# EAGLE library part PDQ30-D (library dc-dc-converter)
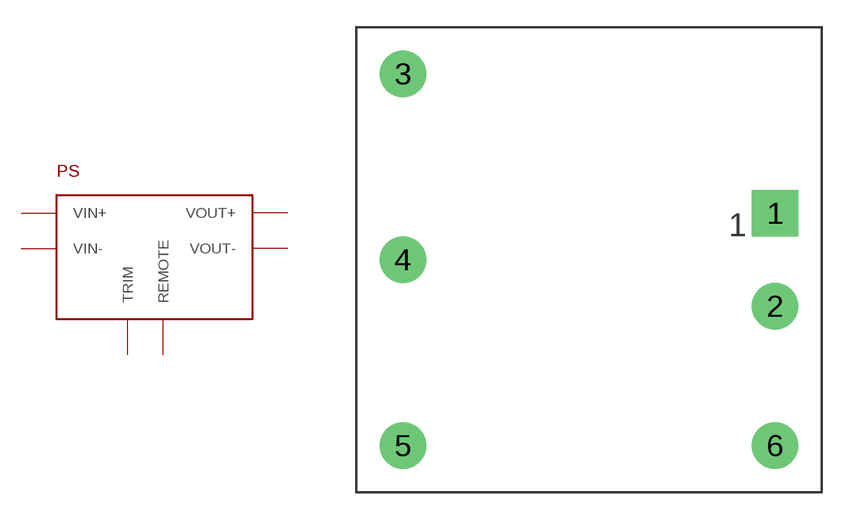
[diagram p7: symbol with the pads of PDQ30-D; footprint PDQ30-D]

Designator prefix PS

## PDQ30-D  [PDQ30-D]
1  VIN+
2  VIN-
3  VOUT+
4  TRIM
5  VOUT-
6  REMOTE

## Footprint PDQ30-D (pad centres in mm)
drill 1.27 pad 2.54 square: 1 0,0
drill 1.27 pad 2.54: 2 0,-5.08; 3 -20.32,7.62; 4 -20.32,-2.54; 5 -20.32,-12.7; 6 0,-12.7